# Altium integrated library 282834-4.IntLib: 1 symbol
Pins are listed as number, name and electrical type; pins without a type are passive.

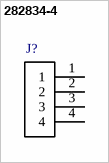
[diagram p0: symbol 282834-4]

## 282834-4
designator J?  (value not drawn)
/ 4 Position Wire to Board Terminal Block Horizontal with Board 0.100 _2.54mm_ Through Hole /; Number_of_Positions: 4; Centerline_Pitch: 2.54 mm[.1 in]; MF: TE Connectivity; Package: None; Availability: Unavailable; MP: 282834-4; TE_purchase_URL: https://www.te.com/usa-en/product-282834-4.html?te_bu=Cor&te_type=disp&te_campaign=seda_glo_cor-seda-global-disp-prtnr-fy19-seda-model-bom-cta_sma-317_1&elqCampaignId=32493; SnapEDA_Link: https://www.snapeda.com/parts/282834-4/TE%20Connectivity%20AMP%20Connectors/view-part/448422/?ref=snap; EU_RoHS_Compliance: Compliant with Exemptions; Price: None; Value: *
footprint *HDRV4W85P254_4X1_1062X650X1000
pins: 1, 2, 3, 4